# Altium integrated library NXP Semiconductors Sensors.IntLib: 94 symbols (part 1 of 4)
Pins are listed as number, name and electrical type; pins without a type are passive.

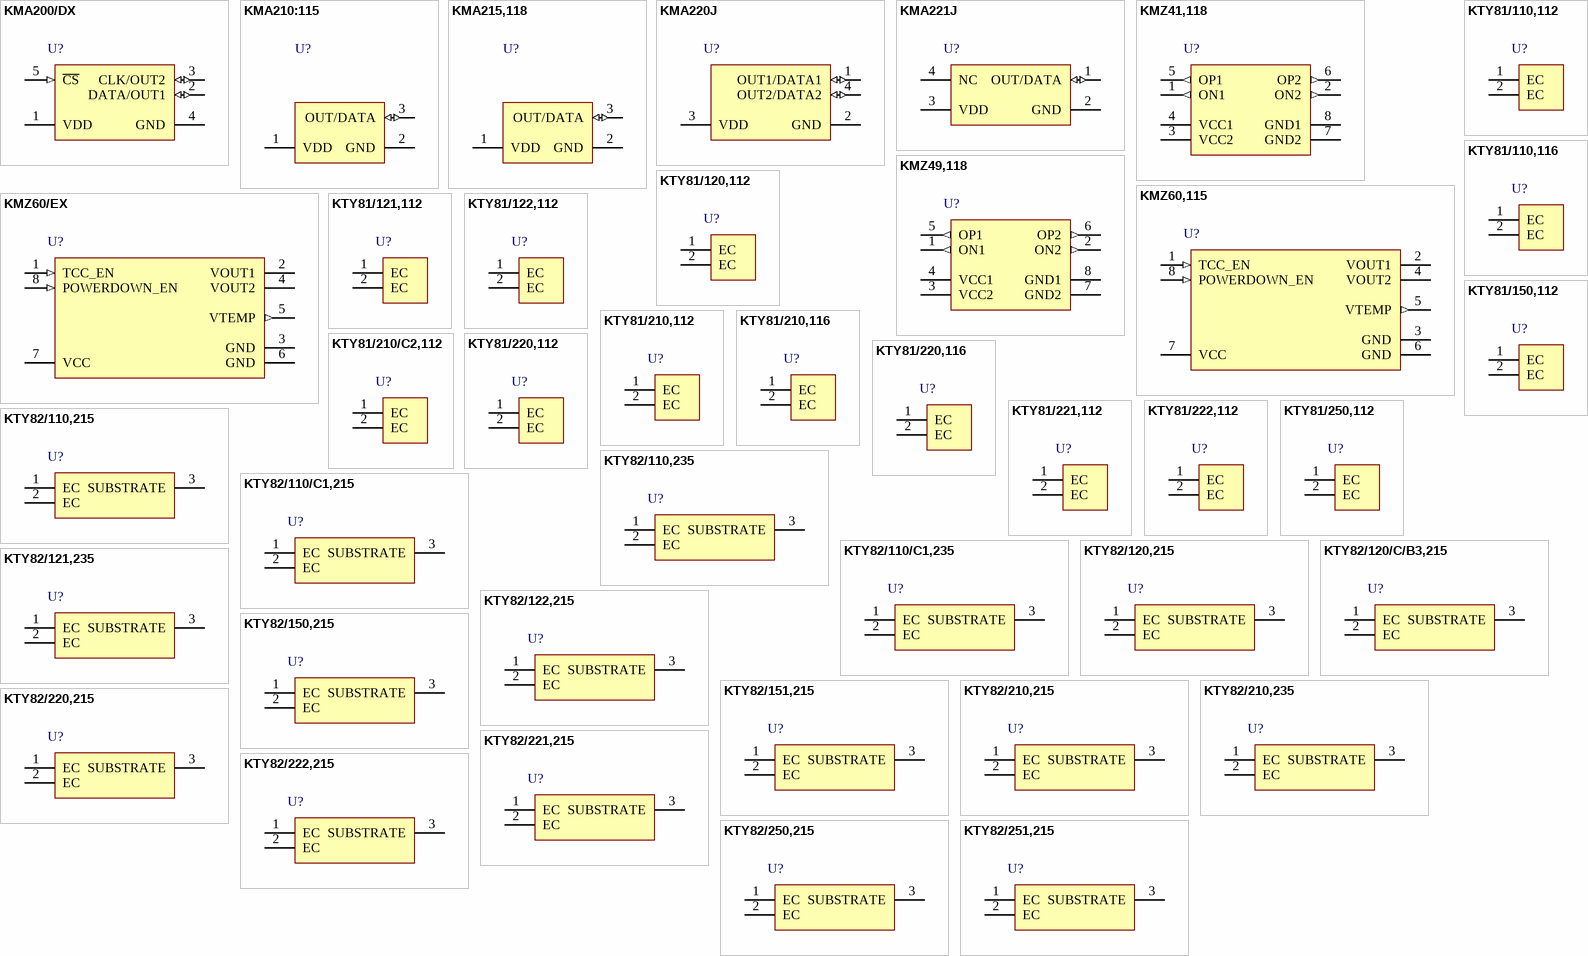
[diagram p0: symbols KMA200/DX to KTY82/251,215]

## KMA200/DX
designator U?
0 to 180 deg Programmable Angle Sensor, 5.5 V Max Supply Voltage, -40 to 160 degC, 5-Pin SOT637, RoHS, Reel; Manufacturer: NXP Semiconductors; PartNumber: KMA200/DX; Angle range (C): 0 to 180; Output Type: 4 analog modes / 2 digital modes; Output voltage [max] (V): 5.5; DatasheetVersion: Rev. 8; PackageVersion: 04-12-10, 12/2004; PackageReference: SOT637; PackageDescription: 5-Pin Plastic Single-Ended Multi-Chip Package, Pitch 1.27 mm; Packing: Reel; Supply voltage [max] (V): 5.5; Mounting Technology: Through Hole; ComponentLink1Description: Manufacturer URL; ComponentLink1URL: http://www.nxp.com/; ComponentLink2Description: Datasheet; ComponentLink2URL: http://www.nxp.com/documents/data_sheet/KMA200.pdf; ComponentLink3Description: Package Specification; ComponentLink3URL: http://www.nxp.com/documents/outline_drawing/sot637_po.pdf
footprint NXP-SOT637_V (SOT, 5-Leads, Body 5.45x1.55mm, Pitch 1.27 mm)
pins: 1 VDD (power) "supply voltage", 2 DATA/OUT1 (io), 3 CLK/OUT2 (io), 4 GND (power) "ground", 5 ~{CS} (in) "chip select (used for data transfer I/O)"

## KMA210:115
designator U?
0 to 180 deg Programmable Angle Sensor, 5.5 V Max Supply Voltage, -40 to 160 degC, 3-Pin SOT1288, RoHS, Reel; Manufacturer: NXP Semiconductors; PartNumber: KMA210:115; Angle range (C): 0 to 180; Output Type: 1 analog linear; Output voltage [max] (V): 5.5; DatasheetVersion: Rev. 2; PackageVersion: 11-06-30, 06/2011; PackageReference: SOT1288; PackageDescription: 3-Pin Plastic Single-Ended Multi-Chip Package, Pitch 2.54 mm; Supplier 1: Digi-Key; Supplier Part Number 1: 568-8399-2-ND; Supplier 2: Digi-Key; Supplier Part Number 2: 568-8399-1-ND; Supplier 3: Digi-Key; Supplier Part Number 3: 568-8399-6-ND; Supplier 4: Newark; Supplier Part Number 4: 74T4097; Supplier 5: Mouser; Supplier Part Number 5: 771-KMA210; Packing: Reel; Supply voltage [max] (V): 5.5; Mounting Technology: Through Hole; ComponentLink1Description: Manufacturer URL; ComponentLink1URL: http://www.nxp.com/; ComponentLink2Description: Datasheet; ComponentLink2URL: http://www.nxp.com/documents/data_sheet/KMA210.pdf; ComponentLink3Description: Package Specification; ComponentLink3URL: http://www.nxp.com/documents/outline_drawing/sot1288_po.pdf
footprint NXP-SOT1288_V (SOT, 3-Leads, Body 5.45x1.65mm, Pitch 2.54mm)
pins: 1 VDD (power) "supply voltage", 2 GND (power) "ground", 3 OUT/DATA (io)

## KMA215,118
designator U?
0 to 180 deg Programmable Angle Sensor with SAE J2716 SENT, 5.25 V Max Supply Voltage, -40 to 160 degC, 3-Pin SOT1288, RoHS, Reel; Manufacturer: NXP Semiconductors; PartNumber: KMA215,118; Angle range (C): 0 to 180; Output Type: 1 digital mode; Output voltage [max] (V): 4.7; Supply voltage [max] (V): 5.25; DatasheetVersion: Rev. 1; PackageVersion: 11-06-30, 06/2011; PackageReference: SOT1288; PackageDescription: 3-Pin Plastic Single-Ended Multi-Chip Package, Pitch 2.54 mm; Packing: Reel; Mounting Technology: Through Hole; ComponentLink1Description: Manufacturer URL; ComponentLink1URL: http://www.nxp.com/; ComponentLink2Description: Datasheet; ComponentLink2URL: http://www.nxp.com/documents/data_sheet/KMA215.pdf; ComponentLink3Description: Package Specification; ComponentLink3URL: http://www.nxp.com/documents/outline_drawing/sot1288_po.pdf
footprint NXP-SOT1288_V (SOT, 3-Leads, Body 5.45x1.65mm, Pitch 2.54mm)
pins: 1 VDD (power) "supply voltage", 2 GND (power) "ground", 3 OUT/DATA (io)

## KMA220J
designator U?
0 to 180 deg Dual Channel Programmable Angle Sensor, 5.5 V Max Supply Voltage, -40 to 160 degC, 4-Pin SOT1188-1, RoHS, Reel; Manufacturer: NXP Semiconductors; PartNumber: KMA220J; Angle range (C): 0 to 180; Output Type: 1 analog linear; Output voltage [max] (V): 5.5; DatasheetVersion: Rev. 2; PackageVersion: 12-05-14, 05/2012; PackageReference: SOT1188-1; PackageDescription: 4-Pin Plastic, Single In-Line Package, Pitch 1.8 mm; Supplier 1: Digi-Key; Supplier Part Number 1: KMA220J-ND; Supplier 2: Newark; Supplier Part Number 2: 55W6628; Supplier 3: Mouser; Supplier Part Number 3: 771-KMA220J; Packing: Reel; Supply voltage [max] (V): 5.5; Mounting Technology: Through Hole; ComponentLink1Description: Manufacturer URL; ComponentLink1URL: http://www.nxp.com/; ComponentLink2Description: Datasheet; ComponentLink2URL: http://www.nxp.com/documents/data_sheet/KMA220.pdf; ComponentLink3Description: Package Specification; ComponentLink3URL: http://www.nxp.com/documents/outline_drawing/sot1188-1_po.pdf
footprint NXP-SOT1188-1_V (SOT, 4-Leads, Body 8.05x2.05mm, Pitch 1.8mm)
pins: 1 OUT1/DATA1 (io) "analog output 1 or data interface 1", 2 GND (power) "ground", 3 VDD (power) "supply voltage", 4 OUT2/DATA2 (io) "analog output 2 or data interface 2"

## KMA221J
designator U?
0 to 180 deg Programmable Angle Sensor, 5.5 V Max Supply Voltage, -40 to 160 degC, 4-Pin SOT1188-1, RoHS, Reel; Manufacturer: NXP Semiconductors; PartNumber: KMA221J; Angle range (C): 0 to 180; Output Type: 1 analog linear; Output voltage [max] (V): 5.5; DatasheetVersion: Rev. 1; PackageVersion: 12-05-14, 05/2012; PackageReference: SOT1188-1; PackageDescription: 4-Pin Plastic, Single In-Line Package, Pitch 1.8 mm; Packing: Reel; Supply voltage [max] (V): 5.5; Mounting Technology: Through Hole; ComponentLink1Description: Manufacturer URL; ComponentLink1URL: http://www.nxp.com/; ComponentLink2Description: Datasheet; ComponentLink2URL: http://www.nxp.com/documents/data_sheet/KMA221.pdf; ComponentLink3Description: Package Specification; ComponentLink3URL: http://www.nxp.com/documents/outline_drawing/sot1188-1_po.pdf
footprint NXP-SOT1188-1_V (SOT, 4-Leads, Body 8.05x2.05mm, Pitch 1.8mm)
pins: 1 OUT/DATA (io) "analog output or data interface", 2 GND (power) "ground", 3 VDD (power) "supply voltage", 4 NC "not connected"

## KMZ41,118
designator U?
Magnetic Field Sensor, 9 V Max Supply Voltage, -40 to 150 degC, 8-Pin SOT96-1, RoHS, Tape & Reel; Manufacturer: NXP Semiconductors; PartNumber: KMZ41,118; Output Type: sine / cosine; Supply voltage [max] (V): 9; Code_IEC: 76000; DatasheetVersion: Rev. 6; PackageVersion: 03-02-18, 02/2003; PackageReference: SOT96-1; PackageDescription: 8-Pin Plastic Small Outline Package, Body 4.9 x 3.9 mm, Pitch 1.27 mm; Supplier 1: Digi-Key; Supplier Part Number 1: KMZ41,118-ND; Supplier 2: Newark; Supplier Part Number 2: 70R5514; Supplier 3: Mouser; Supplier Part Number 3: 771-KMZ41118; Packing: Tape & Reel; Mounting Technology: Surface Mount; Code_JEDEC: MS-012; ComponentLink1Description: Manufacturer URL; ComponentLink1URL: http://www.nxp.com/; ComponentLink2Description: Datasheet; ComponentLink2URL: http://www.nxp.com/documents/data_sheet/KMZ41.pdf; ComponentLink3Description: Package Specification; ComponentLink3URL: http://www.nxp.com/documents/outline_drawing/sot096-1_po.pdf
footprint NXP-SOT96-1_N (SOIC, 8-Leads, Body 5x4mm, Pitch 1.27mm, IPC Medium Density)
footprint NXP-SOT96-1_L (SOIC, 8-Leads, Body 5x4mm, Pitch 1.27mm, IPC High Density)
footprint NXP-SOT96-1_M (SOIC, 8-Leads, Body 5x4mm, Pitch 1.27mm, IPC Low Density)
pins: 1 ON1 (out) "output voltage bridge 1", 2 ON2 (out) "output voltage bridge 2", 3 VCC2 (power) "supply voltage bridge 2", 4 VCC1 (power) "supply voltage bridge 1", 5 OP1 (out) "output voltage bridge 1", 6 OP2 (out) "output voltage bridge 2", 7 GND2 (power), 8 GND1 (power)

## KMZ49,118
designator U?
Magnetic Field Sensor, 9 V Max Supply Voltage, -40 to 150 degC, 8-Pin SOT96-1, RoHS, Tape & Reel; Manufacturer: NXP Semiconductors; PartNumber: KMZ49,118; Output Type: sine / cosine; Supply voltage [max] (V): 9; Code_IEC: 76000; DatasheetVersion: Rev. 1; PackageVersion: 03-02-18, 02/2003; PackageReference: SOT96-1; PackageDescription: 8-Pin Plastic Small Outline Package, Body 4.9 x 3.9 mm, Pitch 1.27 mm; Supplier 1: Digi-Key; Supplier Part Number 1: KMZ49,118-ND; Supplier 2: Newark; Supplier Part Number 2: 78T6033; Supplier 3: Mouser; Supplier Part Number 3: 771-KMZ49118; Packing: Tape & Reel; Mounting Technology: Surface Mount; Code_JEDEC: MS-012; ComponentLink1Description: Manufacturer URL; ComponentLink1URL: http://www.nxp.com/; ComponentLink2Description: Datasheet; ComponentLink2URL: http://www.nxp.com/documents/data_sheet/KMZ49.pdf; ComponentLink3Description: Package Specification; ComponentLink3URL: http://www.nxp.com/documents/outline_drawing/sot096-1_po.pdf
footprint NXP-SOT96-1_N (SOIC, 8-Leads, Body 5x4mm, Pitch 1.27mm, IPC Medium Density)
footprint NXP-SOT96-1_L (SOIC, 8-Leads, Body 5x4mm, Pitch 1.27mm, IPC High Density)
footprint NXP-SOT96-1_M (SOIC, 8-Leads, Body 5x4mm, Pitch 1.27mm, IPC Low Density)
pins: 1 ON1 (out) "output voltage bridge 1", 2 ON2 (out) "output voltage bridge 2", 3 VCC2 (power) "supply voltage bridge 2", 4 VCC1 (power) "supply voltage bridge 1", 5 OP1 (out) "output voltage bridge 1", 6 OP2 (out) "output voltage bridge 2", 7 GND2 (power), 8 GND1 (power)

## KMZ60,115
designator U?
Angle Sensor with Integrated Amplifier, 5.5 V Max Supply Voltage, -40 to 150 degC, 8-Pin SOT96-1, RoHS, Tape & Reel; Manufacturer: NXP Semiconductors; PartNumber: KMZ60,115; Output Type: sine / cosine; Output voltage [max] (V): 5.115; Supply voltage [max] (V): 5.5; Code_IEC: 76000; DatasheetVersion: Rev. 2; PackageVersion: 03-02-18, 02/2003; PackageReference: SOT96-1; PackageDescription: 8-Pin Plastic Small Outline Package, Body 4.9 x 3.9 mm, Pitch 1.27 mm; Supplier 1: Digi-Key; Supplier Part Number 1: 568-8400-2-ND; Supplier 2: Digi-Key; Supplier Part Number 2: 568-8400-1-ND; Supplier 3: Digi-Key; Supplier Part Number 3: 568-8400-6-ND; Supplier 4: Newark; Supplier Part Number 4: 74T4098; Supplier 5: Mouser; Supplier Part Number 5: 771-KMZ60,115; Packing: Tape & Reel; Mounting Technology: Surface Mount; Code_JEDEC: MS-012; ComponentLink1Description: Manufacturer URL; ComponentLink1URL: http://www.nxp.com/; ComponentLink2Description: Datasheet; ComponentLink2URL: http://www.nxp.com/documents/data_sheet/KMZ60.pdf; ComponentLink3Description: Package Specification; ComponentLink3URL: http://www.nxp.com/documents/outline_drawing/sot096-1_po.pdf
footprint NXP-SOT96-1_N (SOIC, 8-Leads, Body 5x4mm, Pitch 1.27mm, IPC Medium Density)
footprint NXP-SOT96-1_L (SOIC, 8-Leads, Body 5x4mm, Pitch 1.27mm, IPC High Density)
footprint NXP-SOT96-1_M (SOIC, 8-Leads, Body 5x4mm, Pitch 1.27mm, IPC Low Density)
pins: 1 TCC_EN (in) "temperature coefficient compensation enable", 2 VOUT1 (hiz) "cosine channel output", 3 GND (power) "ground", 4 VOUT2 (hiz) "sine channel output", 5 VTEMP (out) "temperature reference output voltage", 6 GND (power) "ground", 7 VCC (power) "supply voltage", 8 POWERDOWN_EN (in) "Power-down mode enable"

## KMZ60/EX
designator U?
Angle Sensor with Integrated Amplifier, 5.5 V Max Supply Voltage, -40 to 150 degC, 8-Pin SOT96-1, RoHS, Tape & Reel; Manufacturer: NXP Semiconductors; PartNumber: KMZ60/EX; Output Type: sine / cosine; Output voltage [max] (V): 5.115; Supply voltage [max] (V): 5.5; Code_IEC: 76000; DatasheetVersion: Rev. 2; PackageVersion: 03-02-18, 02/2003; PackageReference: SOT96-1; PackageDescription: 8-Pin Plastic Small Outline Package, Body 4.9 x 3.9 mm, Pitch 1.27 mm; Packing: Tape & Reel; Mounting Technology: Surface Mount; Code_JEDEC: MS-012; ComponentLink1Description: Manufacturer URL; ComponentLink1URL: http://www.nxp.com/; ComponentLink2Description: Datasheet; ComponentLink2URL: http://www.nxp.com/documents/data_sheet/KMZ60.pdf; ComponentLink3Description: Package Specification; ComponentLink3URL: http://www.nxp.com/documents/outline_drawing/sot096-1_po.pdf
footprint NXP-SOT96-1_N (SOIC, 8-Leads, Body 5x4mm, Pitch 1.27mm, IPC Medium Density)
footprint NXP-SOT96-1_L (SOIC, 8-Leads, Body 5x4mm, Pitch 1.27mm, IPC High Density)
footprint NXP-SOT96-1_M (SOIC, 8-Leads, Body 5x4mm, Pitch 1.27mm, IPC Low Density)
pins: 1 TCC_EN (in) "temperature coefficient compensation enable", 2 VOUT1 (hiz) "cosine channel output", 3 GND (power) "ground", 4 VOUT2 (hiz) "sine channel output", 5 VTEMP (out) "temperature reference output voltage", 6 GND (power) "ground", 7 VCC (power) "supply voltage", 8 POWERDOWN_EN (in) "Power-down mode enable"

## KTY81/110,112
designator U?
Silicon Temperature Sensor, 1000 Ohm R25, 1696 Ohm R100, -55 to 150 degC, 2-Pin SOD70, RoHS, Bulk; Manufacturer: NXP Semiconductors; PartNumber: KTY81/110,112; R100 (Ohm): 1696; R25 (Ohm): 1000; DatasheetVersion: Rev. 05; PackageVersion: 06-09-15, 09/2006; PackageReference: SOD70; PackageDescription: 2-Pin Plastic Near Cylindrical Single-Ended Package, Pitch 2.54 mm; Supplier 1: Digi-Key; Supplier Part Number 1: 568-1003-ND; Supplier 2: Newark; Supplier Part Number 2: 70R5516; Supplier 3: Mouser; Supplier Part Number 3: N/A; Packing: Bulk; Mounting Technology: Through Hole; ComponentLink1Description: Manufacturer URL; ComponentLink1URL: http://www.nxp.com/; ComponentLink2Description: Datasheet; ComponentLink2URL: http://www.nxp.com/documents/data_sheet/KTY81_SER.pdf; ComponentLink3Description: Package Specification; ComponentLink3URL: http://www.nxp.com/documents/outline_drawing/sod070_po.pdf
footprint NXP-SOD70_V (TO, 2-Leads, Body Dia. 4.8mm, Pitch 2.54mm)
pins: 1 EC "electrical contact", 2 EC "electrical contact"

## KTY81/110,116
designator U?
Silicon Temperature Sensor, 1000 Ohm R25, 1696 Ohm R100, -55 to 150 degC, 2-Pin SOD70, RoHS, Reel; Manufacturer: NXP Semiconductors; PartNumber: KTY81/110,116; R100 (Ohm): 1696; R25 (Ohm): 1000; DatasheetVersion: Rev. 05; PackageVersion: 06-09-15, 09/2006; PackageReference: SOD70; PackageDescription: 2-Pin Plastic Near Cylindrical Single-Ended Package, Pitch 2.54 mm; Supplier 1: Digi-Key; Supplier Part Number 1: KTY81/110,116-ND; Supplier 2: Mouser; Supplier Part Number 2: 771-KTY81/110,116; Packing: Reel; Mounting Technology: Through Hole; ComponentLink1Description: Manufacturer URL; ComponentLink1URL: http://www.nxp.com/; ComponentLink2Description: Datasheet; ComponentLink2URL: http://www.nxp.com/documents/data_sheet/KTY81_SER.pdf; ComponentLink3Description: Package Specification; ComponentLink3URL: http://www.nxp.com/documents/outline_drawing/sod070_po.pdf
footprint NXP-SOD70_V (TO, 2-Leads, Body Dia. 4.8mm, Pitch 2.54mm)
pins: 1 EC "electrical contact", 2 EC "electrical contact"

## KTY81/120,112
designator U?
Silicon Temperature Sensor, 1000 Ohm R25, 1696 Ohm R100, -55 to 150 degC, 2-Pin SOD70, RoHS, Bulk; Manufacturer: NXP Semiconductors; PartNumber: KTY81/120,112; R100 (Ohm): 1696; R25 (Ohm): 1000; DatasheetVersion: Rev. 05; PackageVersion: 06-09-15, 09/2006; PackageReference: SOD70; PackageDescription: 2-Pin Plastic Near Cylindrical Single-Ended Package, Pitch 2.54 mm; Supplier 1: Digi-Key; Supplier Part Number 1: KTY81/120,112-ND; Supplier 2: Mouser; Supplier Part Number 2: 771-KTY81120112; Packing: Bulk; Mounting Technology: Through Hole; ComponentLink1Description: Manufacturer URL; ComponentLink1URL: http://www.nxp.com/; ComponentLink2Description: Datasheet; ComponentLink2URL: http://www.nxp.com/documents/data_sheet/KTY81_SER.pdf; ComponentLink3Description: Package Specification; ComponentLink3URL: http://www.nxp.com/documents/outline_drawing/sod070_po.pdf
footprint NXP-SOD70_V (TO, 2-Leads, Body Dia. 4.8mm, Pitch 2.54mm)
pins: 1 EC "electrical contact", 2 EC "electrical contact"

## KTY81/121,112
designator U?
Silicon Temperature Sensor, 990 Ohm R25, 1679 Ohm R100, -55 to 150 degC, 2-Pin SOD70, RoHS, Bulk; Manufacturer: NXP Semiconductors; PartNumber: KTY81/121,112; R100 (Ohm): 1679; R25 (Ohm): 990; DatasheetVersion: Rev. 05; PackageVersion: 06-09-15, 09/2006; PackageReference: SOD70; PackageDescription: 2-Pin Plastic Near Cylindrical Single-Ended Package, Pitch 2.54 mm; Supplier 1: Digi-Key; Supplier Part Number 1: 568-3249-ND; Supplier 2: Newark; Supplier Part Number 2: 70R5519; Supplier 3: Mouser; Supplier Part Number 3: 771-KTY81121112; Packing: Bulk; Mounting Technology: Through Hole; ComponentLink1Description: Manufacturer URL; ComponentLink1URL: http://www.nxp.com/; ComponentLink2Description: Datasheet; ComponentLink2URL: http://www.nxp.com/documents/data_sheet/KTY81_SER.pdf; ComponentLink3Description: Package Specification; ComponentLink3URL: http://www.nxp.com/documents/outline_drawing/sod070_po.pdf
footprint NXP-SOD70_V (TO, 2-Leads, Body Dia. 4.8mm, Pitch 2.54mm)
pins: 1 EC "electrical contact", 2 EC "electrical contact"

## KTY81/122,112
designator U?
Silicon Temperature Sensor, 1010 Ohm R25, 1713 Ohm R100, -55 to 150 degC, 2-Pin SOD70, RoHS, Bulk; Manufacturer: NXP Semiconductors; PartNumber: KTY81/122,112; R100 (Ohm): 1713; R25 (Ohm): 1010; DatasheetVersion: Rev. 05; PackageVersion: 06-09-15, 09/2006; PackageReference: SOD70; PackageDescription: 2-Pin Plastic Near Cylindrical Single-Ended Package, Pitch 2.54 mm; Supplier 1: Digi-Key; Supplier Part Number 1: KTY81/122,112-ND; Supplier 2: Newark; Supplier Part Number 2: 70R5520; Supplier 3: Mouser; Supplier Part Number 3: 771-KTY81122112; Packing: Bulk; Mounting Technology: Through Hole; ComponentLink1Description: Manufacturer URL; ComponentLink1URL: http://www.nxp.com/; ComponentLink2Description: Datasheet; ComponentLink2URL: http://www.nxp.com/documents/data_sheet/KTY81_SER.pdf; ComponentLink3Description: Package Specification; ComponentLink3URL: http://www.nxp.com/documents/outline_drawing/sod070_po.pdf
footprint NXP-SOD70_V (TO, 2-Leads, Body Dia. 4.8mm, Pitch 2.54mm)
pins: 1 EC "electrical contact", 2 EC "electrical contact"

## KTY81/150,112
designator U?
Silicon Temperature Sensor, 1000 Ohm R25, 1696 Ohm R100, -55 to 150 degC, 2-Pin SOD70, RoHS, Bulk; Manufacturer: NXP Semiconductors; PartNumber: KTY81/150,112; R100 (Ohm): 1696; R25 (Ohm): 1000; DatasheetVersion: Rev. 05; PackageVersion: 06-09-15, 09/2006; PackageReference: SOD70; PackageDescription: 2-Pin Plastic Near Cylindrical Single-Ended Package, Pitch 2.54 mm; Supplier 1: Digi-Key; Supplier Part Number 1: KTY81/150,112-ND; Supplier 2: Mouser; Supplier Part Number 2: 771-KTY81150112; Packing: Bulk; Mounting Technology: Through Hole; ComponentLink1Description: Manufacturer URL; ComponentLink1URL: http://www.nxp.com/; ComponentLink2Description: Datasheet; ComponentLink2URL: http://www.nxp.com/documents/data_sheet/KTY81_SER.pdf; ComponentLink3Description: Package Specification; ComponentLink3URL: http://www.nxp.com/documents/outline_drawing/sod070_po.pdf
footprint NXP-SOD70_V (TO, 2-Leads, Body Dia. 4.8mm, Pitch 2.54mm)
pins: 1 EC "electrical contact", 2 EC "electrical contact"

## KTY81/210,112
designator U?
Silicon Temperature Sensor, 2000 Ohm R25, 3392 Ohm R100, -55 to 150 degC, 2-Pin SOD70, RoHS, Bulk; Manufacturer: NXP Semiconductors; PartNumber: KTY81/210,112; R100 (Ohm): 3392; R25 (Ohm): 2000; DatasheetVersion: Rev. 05; PackageVersion: 06-09-15, 09/2006; PackageReference: SOD70; PackageDescription: 2-Pin Plastic Near Cylindrical Single-Ended Package, Pitch 2.54 mm; Supplier 1: Digi-Key; Supplier Part Number 1: 568-3250-ND; Supplier 2: Newark; Supplier Part Number 2: 70R5522; Supplier 3: Mouser; Supplier Part Number 3: N/A; Packing: Bulk; Mounting Technology: Through Hole; ComponentLink1Description: Manufacturer URL; ComponentLink1URL: http://www.nxp.com/; ComponentLink2Description: Datasheet; ComponentLink2URL: http://www.nxp.com/documents/data_sheet/KTY81_SER.pdf; ComponentLink3Description: Package Specification; ComponentLink3URL: http://www.nxp.com/documents/outline_drawing/sod070_po.pdf
footprint NXP-SOD70_V (TO, 2-Leads, Body Dia. 4.8mm, Pitch 2.54mm)
pins: 1 EC "electrical contact", 2 EC "electrical contact"

## KTY81/210,116
designator U?
Silicon Temperature Sensor, 2000 Ohm R25, 3392 Ohm R100, -55 to 150 degC, 2-Pin SOD70, RoHS, Reel; Manufacturer: NXP Semiconductors; PartNumber: KTY81/210,116; R100 (Ohm): 3392; R25 (Ohm): 2000; DatasheetVersion: Rev. 05; PackageVersion: 06-09-15, 09/2006; PackageReference: SOD70; PackageDescription: 2-Pin Plastic Near Cylindrical Single-Ended Package, Pitch 2.54 mm; Supplier 1: Digi-Key; Supplier Part Number 1: KTY81/210,116-ND; Supplier 2: Mouser; Supplier Part Number 2: N/A; Packing: Reel; Mounting Technology: Through Hole; ComponentLink1Description: Manufacturer URL; ComponentLink1URL: http://www.nxp.com/; ComponentLink2Description: Datasheet; ComponentLink2URL: http://www.nxp.com/documents/data_sheet/KTY81_SER.pdf; ComponentLink3Description: Package Specification; ComponentLink3URL: http://www.nxp.com/documents/outline_drawing/sod070_po.pdf
footprint NXP-SOD70_V (TO, 2-Leads, Body Dia. 4.8mm, Pitch 2.54mm)
pins: 1 EC "electrical contact", 2 EC "electrical contact"

## KTY81/210/C2,112
designator U?
Silicon Temperature Sensor, 2000 Ohm R25, 3392 Ohm R100, -55 to 150 degC, 2-Pin SOD70, RoHS, Bulk; Manufacturer: NXP Semiconductors; PartNumber: KTY81/210/C2,112; R100 (Ohm): 3392; R25 (Ohm): 2000; DatasheetVersion: Rev. 05; PackageVersion: 06-09-15, 09/2006; PackageReference: SOD70; PackageDescription: 2-Pin Plastic Near Cylindrical Single-Ended Package, Pitch 2.54 mm; Supplier 1: Mouser; Supplier Part Number 1: N/A; Packing: Bulk; Mounting Technology: Through Hole; ComponentLink1Description: Manufacturer URL; ComponentLink1URL: http://www.nxp.com/; ComponentLink2Description: Datasheet; ComponentLink2URL: http://www.nxp.com/documents/data_sheet/KTY81_SER.pdf; ComponentLink3Description: Package Specification; ComponentLink3URL: http://www.nxp.com/documents/outline_drawing/sod070_po.pdf
footprint NXP-SOD70_V (TO, 2-Leads, Body Dia. 4.8mm, Pitch 2.54mm)
pins: 1 EC "electrical contact", 2 EC "electrical contact"

## KTY81/220,112
designator U?
Silicon Temperature Sensor, 2000 Ohm R25, 3392 Ohm R100, -55 to 150 degC, 2-Pin SOD70, RoHS, Bulk; Manufacturer: NXP Semiconductors; PartNumber: KTY81/220,112; R100 (Ohm): 3392; R25 (Ohm): 2000; DatasheetVersion: Rev. 05; PackageVersion: 06-09-15, 09/2006; PackageReference: SOD70; PackageDescription: 2-Pin Plastic Near Cylindrical Single-Ended Package, Pitch 2.54 mm; Supplier 1: Digi-Key; Supplier Part Number 1: 568-3251-ND; Supplier 2: Newark; Supplier Part Number 2: 70R5524; Supplier 3: Mouser; Supplier Part Number 3: 771-KTY81220112; Packing: Bulk; Mounting Technology: Through Hole; ComponentLink1Description: Manufacturer URL; ComponentLink1URL: http://www.nxp.com/; ComponentLink2Description: Datasheet; ComponentLink2URL: http://www.nxp.com/documents/data_sheet/KTY81_SER.pdf; ComponentLink3Description: Package Specification; ComponentLink3URL: http://www.nxp.com/documents/outline_drawing/sod070_po.pdf
footprint NXP-SOD70_V (TO, 2-Leads, Body Dia. 4.8mm, Pitch 2.54mm)
pins: 1 EC "electrical contact", 2 EC "electrical contact"

## KTY81/220,116
designator U?
Silicon Temperature Sensor, 2000 Ohm R25, 3392 Ohm R100, -55 to 150 degC, 2-Pin SOD70, RoHS, Reel; Manufacturer: NXP Semiconductors; PartNumber: KTY81/220,116; R100 (Ohm): 3392; R25 (Ohm): 2000; DatasheetVersion: Rev. 05; PackageVersion: 06-09-15, 09/2006; PackageReference: SOD70; PackageDescription: 2-Pin Plastic Near Cylindrical Single-Ended Package, Pitch 2.54 mm; Supplier 1: Digi-Key; Supplier Part Number 1: KTY81/220,116-ND; Supplier 2: Newark; Supplier Part Number 2: 70R5525; Supplier 3: Mouser; Supplier Part Number 3: 771-KTY81/220,116; Packing: Reel; Mounting Technology: Through Hole; ComponentLink1Description: Manufacturer URL; ComponentLink1URL: http://www.nxp.com/; ComponentLink2Description: Datasheet; ComponentLink2URL: http://www.nxp.com/documents/data_sheet/KTY81_SER.pdf; ComponentLink3Description: Package Specification; ComponentLink3URL: http://www.nxp.com/documents/outline_drawing/sod070_po.pdf
footprint NXP-SOD70_V (TO, 2-Leads, Body Dia. 4.8mm, Pitch 2.54mm)
pins: 1 EC "electrical contact", 2 EC "electrical contact"

## KTY81/221,112
designator U?
Silicon Temperature Sensor, 1980 Ohm R25, 3358 Ohm R100, -55 to 150 degC, 2-Pin SOD70, RoHS, Bulk; Manufacturer: NXP Semiconductors; PartNumber: KTY81/221,112; R100 (Ohm): 3358; R25 (Ohm): 1980; DatasheetVersion: Rev. 05; PackageVersion: 06-09-15, 09/2006; PackageReference: SOD70; PackageDescription: 2-Pin Plastic Near Cylindrical Single-Ended Package, Pitch 2.54 mm; Supplier 1: Digi-Key; Supplier Part Number 1: KTY81/221,112-ND; Supplier 2: Mouser; Supplier Part Number 2: 771-KTY81221112; Packing: Bulk; Mounting Technology: Through Hole; ComponentLink1Description: Manufacturer URL; ComponentLink1URL: http://www.nxp.com/; ComponentLink2Description: Datasheet; ComponentLink2URL: http://www.nxp.com/documents/data_sheet/KTY81_SER.pdf; ComponentLink3Description: Package Specification; ComponentLink3URL: http://www.nxp.com/documents/outline_drawing/sod070_po.pdf
footprint NXP-SOD70_V (TO, 2-Leads, Body Dia. 4.8mm, Pitch 2.54mm)
pins: 1 EC "electrical contact", 2 EC "electrical contact"

## KTY81/222,112
designator U?
Silicon Temperature Sensor, 2020 Ohm R25, 3426 Ohm R100, -55 to 150 degC, 2-Pin SOD70, RoHS, Bulk; Manufacturer: NXP Semiconductors; PartNumber: KTY81/222,112; R100 (Ohm): 3426; R25 (Ohm): 2020; DatasheetVersion: Rev. 05; PackageVersion: 06-09-15, 09/2006; PackageReference: SOD70; PackageDescription: 2-Pin Plastic Near Cylindrical Single-Ended Package, Pitch 2.54 mm; Supplier 1: Digi-Key; Supplier Part Number 1: 568-3252-ND; Supplier 2: Mouser; Supplier Part Number 2: 771-KTY81222112; Packing: Bulk; Mounting Technology: Through Hole; ComponentLink1Description: Manufacturer URL; ComponentLink1URL: http://www.nxp.com/; ComponentLink2Description: Datasheet; ComponentLink2URL: http://www.nxp.com/documents/data_sheet/KTY81_SER.pdf; ComponentLink3Description: Package Specification; ComponentLink3URL: http://www.nxp.com/documents/outline_drawing/sod070_po.pdf
footprint NXP-SOD70_V (TO, 2-Leads, Body Dia. 4.8mm, Pitch 2.54mm)
pins: 1 EC "electrical contact", 2 EC "electrical contact"

## KTY81/250,112
designator U?
Silicon Temperature Sensor, 2000 Ohm R25, 3392 Ohm R100, -55 to 150 degC, 2-Pin SOD70, RoHS, Bulk; Manufacturer: NXP Semiconductors; PartNumber: KTY81/250,112; R100 (Ohm): 3392; R25 (Ohm): 2000; DatasheetVersion: Rev. 05; PackageVersion: 06-09-15, 09/2006; PackageReference: SOD70; PackageDescription: 2-Pin Plastic Near Cylindrical Single-Ended Package, Pitch 2.54 mm; Supplier 1: Digi-Key; Supplier Part Number 1: KTY81/250,112-ND; Supplier 2: Mouser; Supplier Part Number 2: 771-KTY81250112; Packing: Bulk; Mounting Technology: Through Hole; ComponentLink1Description: Manufacturer URL; ComponentLink1URL: http://www.nxp.com/; ComponentLink2Description: Datasheet; ComponentLink2URL: http://www.nxp.com/documents/data_sheet/KTY81_SER.pdf; ComponentLink3Description: Package Specification; ComponentLink3URL: http://www.nxp.com/documents/outline_drawing/sod070_po.pdf
footprint NXP-SOD70_V (TO, 2-Leads, Body Dia. 4.8mm, Pitch 2.54mm)
pins: 1 EC "electrical contact", 2 EC "electrical contact"

## KTY82/110,215
designator U?
Silicon Temperature Sensor, 1000 Ohm R25, 1696 Ohm R100, -55 to 150 degC, 3-Pin SOT23, RoHS, Tape & Reel; Manufacturer: NXP Semiconductors; PartNumber: KTY82/110,215; R100 (Ohm): 1696; R25 (Ohm): 1000; DatasheetVersion: Rev. 04; PackageVersion: 06-03-16, 03/2006; PackageReference: SOT23; PackageDescription: 3-Pin Plastic Surface Mounted Package, Body 2.9 x 1.3 mm, Pitch 0.95 mm; Supplier 1: Digi-Key; Supplier Part Number 1: 568-11219-2-ND; Supplier 2: Digi-Key; Supplier Part Number 2: 568-11219-1-ND; Supplier 3: Digi-Key; Supplier Part Number 3: 568-11219-6-ND; Supplier 4: Newark; Supplier Part Number 4: 70R5529; Supplier 5: Mouser; Supplier Part Number 5: 771-KTY82/110T/R; Packing: Tape & Reel; Mounting Technology: Surface Mount; Code_JEDEC: TO-236AB; ComponentLink1Description: Manufacturer URL; ComponentLink1URL: http://www.nxp.com/; ComponentLink2Description: Datasheet; ComponentLink2URL: http://www.nxp.com/documents/data_sheet/KTY82_SER.pdf; ComponentLink3Description: Package Specification; ComponentLink3URL: http://www.nxp.com/documents/outline_drawing/sot023_po.pdf
footprint NXP-SOT23_N (SOT23, 3-Leads, Body 3x1.4mm, Pitch 0.95mm, IPC Medium Density)
footprint NXP-SOT23_L (SOT23, 3-Leads, Body 3x1.4mm, Pitch 0.95mm, IPC High Density)
footprint NXP-SOT23_M (SOT23, 3-Leads, Body 3x1.4mm, Pitch 0.95mm, IPC Low Density)
pins: 1 EC "electrical contact", 2 EC "electrical contact", 3 SUBSTRATE "substrate (must remain potential free)"

## KTY82/110,235
designator U?
Silicon Temperature Sensor, 1000 Ohm R25, 1696 Ohm R100, -55 to 150 degC, 3-Pin SOT23, RoHS, Tape & Reel; Manufacturer: NXP Semiconductors; PartNumber: KTY82/110,235; R100 (Ohm): 1696; R25 (Ohm): 1000; DatasheetVersion: Rev. 04; PackageVersion: 06-03-16, 03/2006; PackageReference: SOT23; PackageDescription: 3-Pin Plastic Surface Mounted Package, Body 2.9 x 1.3 mm, Pitch 0.95 mm; Supplier 1: Digi-Key; Supplier Part Number 1: KTY82/110,235-ND; Supplier 2: Mouser; Supplier Part Number 2: 771-KTY82110235; Packing: Tape & Reel; Mounting Technology: Surface Mount; Code_JEDEC: TO-236AB; ComponentLink1Description: Manufacturer URL; ComponentLink1URL: http://www.nxp.com/; ComponentLink2Description: Datasheet; ComponentLink2URL: http://www.nxp.com/documents/data_sheet/KTY82_SER.pdf; ComponentLink3Description: Package Specification; ComponentLink3URL: http://www.nxp.com/documents/outline_drawing/sot023_po.pdf
footprint NXP-SOT23_N (SOT23, 3-Leads, Body 3x1.4mm, Pitch 0.95mm, IPC Medium Density)
footprint NXP-SOT23_L (SOT23, 3-Leads, Body 3x1.4mm, Pitch 0.95mm, IPC High Density)
footprint NXP-SOT23_M (SOT23, 3-Leads, Body 3x1.4mm, Pitch 0.95mm, IPC Low Density)
pins: 1 EC "electrical contact", 2 EC "electrical contact", 3 SUBSTRATE "substrate (must remain potential free)"

## KTY82/110/C1,215
designator U?
Silicon Temperature Sensor, 1000 Ohm R25, 1696 Ohm R100, -55 to 150 degC, 3-Pin SOT23, RoHS, Tape & Reel; Manufacturer: NXP Semiconductors; PartNumber: KTY82/110/C1,215; R100 (Ohm): 1696; R25 (Ohm): 1000; DatasheetVersion: Rev. 04; PackageVersion: 06-03-16, 03/2006; PackageReference: SOT23; PackageDescription: 3-Pin Plastic Surface Mounted Package, Body 2.9 x 1.3 mm, Pitch 0.95 mm; Supplier 1: Mouser; Supplier Part Number 1: N/A; Packing: Tape & Reel; Mounting Technology: Surface Mount; Code_JEDEC: TO-236AB; ComponentLink1Description: Manufacturer URL; ComponentLink1URL: http://www.nxp.com/; ComponentLink2Description: Datasheet; ComponentLink2URL: http://www.nxp.com/documents/data_sheet/KTY82_SER.pdf; ComponentLink3Description: Package Specification; ComponentLink3URL: http://www.nxp.com/documents/outline_drawing/sot023_po.pdf
footprint NXP-SOT23_N (SOT23, 3-Leads, Body 3x1.4mm, Pitch 0.95mm, IPC Medium Density)
footprint NXP-SOT23_L (SOT23, 3-Leads, Body 3x1.4mm, Pitch 0.95mm, IPC High Density)
footprint NXP-SOT23_M (SOT23, 3-Leads, Body 3x1.4mm, Pitch 0.95mm, IPC Low Density)
pins: 1 EC "electrical contact", 2 EC "electrical contact", 3 SUBSTRATE "substrate (must remain potential free)"

## KTY82/110/C1,235
designator U?
Silicon Temperature Sensor, 1000 Ohm R25, 1696 Ohm R100, -55 to 150 degC, 3-Pin SOT23, RoHS, Tape & Reel; Manufacturer: NXP Semiconductors; PartNumber: KTY82/110/C1,235; R100 (Ohm): 1696; R25 (Ohm): 1000; DatasheetVersion: Rev. 04; PackageVersion: 06-03-16, 03/2006; PackageReference: SOT23; PackageDescription: 3-Pin Plastic Surface Mounted Package, Body 2.9 x 1.3 mm, Pitch 0.95 mm; Supplier 1: Mouser; Supplier Part Number 1: N/A; Packing: Tape & Reel; Mounting Technology: Surface Mount; Code_JEDEC: TO-236AB; ComponentLink1Description: Manufacturer URL; ComponentLink1URL: http://www.nxp.com/; ComponentLink2Description: Datasheet; ComponentLink2URL: http://www.nxp.com/documents/data_sheet/KTY82_SER.pdf; ComponentLink3Description: Package Specification; ComponentLink3URL: http://www.nxp.com/documents/outline_drawing/sot023_po.pdf
footprint NXP-SOT23_N (SOT23, 3-Leads, Body 3x1.4mm, Pitch 0.95mm, IPC Medium Density)
footprint NXP-SOT23_L (SOT23, 3-Leads, Body 3x1.4mm, Pitch 0.95mm, IPC High Density)
footprint NXP-SOT23_M (SOT23, 3-Leads, Body 3x1.4mm, Pitch 0.95mm, IPC Low Density)
pins: 1 EC "electrical contact", 2 EC "electrical contact", 3 SUBSTRATE "substrate (must remain potential free)"

## KTY82/120,215
designator U?
Silicon Temperature Sensor, 1000 Ohm R25, 1696 Ohm R100, -55 to 150 degC, 3-Pin SOT23, RoHS, Tape & Reel; Manufacturer: NXP Semiconductors; PartNumber: KTY82/120,215; R100 (Ohm): 1696; R25 (Ohm): 1000; DatasheetVersion: Rev. 04; PackageVersion: 06-03-16, 03/2006; PackageReference: SOT23; PackageDescription: 3-Pin Plastic Surface Mounted Package, Body 2.9 x 1.3 mm, Pitch 0.95 mm; Supplier 1: Digi-Key; Supplier Part Number 1: KTY82/120,215-ND; Supplier 2: Mouser; Supplier Part Number 2: 771-KTY82120215; Packing: Tape & Reel; Mounting Technology: Surface Mount; Code_JEDEC: TO-236AB; ComponentLink1Description: Manufacturer URL; ComponentLink1URL: http://www.nxp.com/; ComponentLink2Description: Datasheet; ComponentLink2URL: http://www.nxp.com/documents/data_sheet/KTY82_SER.pdf; ComponentLink3Description: Package Specification; ComponentLink3URL: http://www.nxp.com/documents/outline_drawing/sot023_po.pdf
footprint NXP-SOT23_N (SOT23, 3-Leads, Body 3x1.4mm, Pitch 0.95mm, IPC Medium Density)
footprint NXP-SOT23_L (SOT23, 3-Leads, Body 3x1.4mm, Pitch 0.95mm, IPC High Density)
footprint NXP-SOT23_M (SOT23, 3-Leads, Body 3x1.4mm, Pitch 0.95mm, IPC Low Density)
pins: 1 EC "electrical contact", 2 EC "electrical contact", 3 SUBSTRATE "substrate (must remain potential free)"

## KTY82/120/C/B3,215
designator U?
Silicon Temperature Sensor, 1000 Ohm R25, 1696 Ohm R100, -55 to 150 degC, 3-Pin SOT23, RoHS, Tape & Reel; Manufacturer: NXP Semiconductors; PartNumber: KTY82/120/C/B3,215; R100 (Ohm): 1696; R25 (Ohm): 1000; DatasheetVersion: Rev. 04; PackageVersion: 06-03-16, 03/2006; PackageReference: SOT23; PackageDescription: 3-Pin Plastic Surface Mounted Package, Body 2.9 x 1.3 mm, Pitch 0.95 mm; Supplier 1: Mouser; Supplier Part Number 1: N/A; Packing: Tape & Reel; Mounting Technology: Surface Mount; Code_JEDEC: TO-236AB; ComponentLink1Description: Manufacturer URL; ComponentLink1URL: http://www.nxp.com/; ComponentLink2Description: Datasheet; ComponentLink2URL: http://www.nxp.com/documents/data_sheet/KTY82_SER.pdf; ComponentLink3Description: Package Specification; ComponentLink3URL: http://www.nxp.com/documents/outline_drawing/sot023_po.pdf
footprint NXP-SOT23_N (SOT23, 3-Leads, Body 3x1.4mm, Pitch 0.95mm, IPC Medium Density)
footprint NXP-SOT23_L (SOT23, 3-Leads, Body 3x1.4mm, Pitch 0.95mm, IPC High Density)
footprint NXP-SOT23_M (SOT23, 3-Leads, Body 3x1.4mm, Pitch 0.95mm, IPC Low Density)
pins: 1 EC "electrical contact", 2 EC "electrical contact", 3 SUBSTRATE "substrate (must remain potential free)"

## KTY82/121,235
designator U?
Silicon Temperature Sensor, 990 Ohm R25, 1679 Ohm R100, -55 to 150 degC, 3-Pin SOT23, RoHS, Tape & Reel; Manufacturer: NXP Semiconductors; PartNumber: KTY82/121,235; R100 (Ohm): 1679; R25 (Ohm): 990; DatasheetVersion: Rev. 04; PackageVersion: 06-03-16, 03/2006; PackageReference: SOT23; PackageDescription: 3-Pin Plastic Surface Mounted Package, Body 2.9 x 1.3 mm, Pitch 0.95 mm; Supplier 1: Digi-Key; Supplier Part Number 1: KTY82/121,235-ND; Supplier 2: Mouser; Supplier Part Number 2: 771-KTY82121235; Packing: Tape & Reel; Mounting Technology: Surface Mount; Code_JEDEC: TO-236AB; ComponentLink1Description: Manufacturer URL; ComponentLink1URL: http://www.nxp.com/; ComponentLink2Description: Datasheet; ComponentLink2URL: http://www.nxp.com/documents/data_sheet/KTY82_SER.pdf; ComponentLink3Description: Package Specification; ComponentLink3URL: http://www.nxp.com/documents/outline_drawing/sot023_po.pdf
footprint NXP-SOT23_N (SOT23, 3-Leads, Body 3x1.4mm, Pitch 0.95mm, IPC Medium Density)
footprint NXP-SOT23_L (SOT23, 3-Leads, Body 3x1.4mm, Pitch 0.95mm, IPC High Density)
footprint NXP-SOT23_M (SOT23, 3-Leads, Body 3x1.4mm, Pitch 0.95mm, IPC Low Density)
pins: 1 EC "electrical contact", 2 EC "electrical contact", 3 SUBSTRATE "substrate (must remain potential free)"

## KTY82/122,215
designator U?
Silicon Temperature Sensor, 1010 Ohm R25, 1713 Ohm R100, -55 to 150 degC, 3-Pin SOT23, RoHS, Tape & Reel; Manufacturer: NXP Semiconductors; PartNumber: KTY82/122,215; R100 (Ohm): 1713; R25 (Ohm): 1010; DatasheetVersion: Rev. 04; PackageVersion: 06-03-16, 03/2006; PackageReference: SOT23; PackageDescription: 3-Pin Plastic Surface Mounted Package, Body 2.9 x 1.3 mm, Pitch 0.95 mm; Supplier 1: Digi-Key; Supplier Part Number 1: KTY82/122,215-ND; Supplier 2: Mouser; Supplier Part Number 2: 771-KTY82122215; Packing: Tape & Reel; Mounting Technology: Surface Mount; Code_JEDEC: TO-236AB; ComponentLink1Description: Manufacturer URL; ComponentLink1URL: http://www.nxp.com/; ComponentLink2Description: Datasheet; ComponentLink2URL: http://www.nxp.com/documents/data_sheet/KTY82_SER.pdf; ComponentLink3Description: Package Specification; ComponentLink3URL: http://www.nxp.com/documents/outline_drawing/sot023_po.pdf
footprint NXP-SOT23_N (SOT23, 3-Leads, Body 3x1.4mm, Pitch 0.95mm, IPC Medium Density)
footprint NXP-SOT23_L (SOT23, 3-Leads, Body 3x1.4mm, Pitch 0.95mm, IPC High Density)
footprint NXP-SOT23_M (SOT23, 3-Leads, Body 3x1.4mm, Pitch 0.95mm, IPC Low Density)
pins: 1 EC "electrical contact", 2 EC "electrical contact", 3 SUBSTRATE "substrate (must remain potential free)"

## KTY82/150,215
designator U?
Silicon Temperature Sensor, 1000 Ohm R25, 1696 Ohm R100, -55 to 150 degC, 3-Pin SOT23, RoHS, Tape & Reel; Manufacturer: NXP Semiconductors; PartNumber: KTY82/150,215; R100 (Ohm): 1696; R25 (Ohm): 1000; DatasheetVersion: Rev. 04; PackageVersion: 06-03-16, 03/2006; PackageReference: SOT23; PackageDescription: 3-Pin Plastic Surface Mounted Package, Body 2.9 x 1.3 mm, Pitch 0.95 mm; Supplier 1: Digi-Key; Supplier Part Number 1: KTY82/150,215-ND; Supplier 2: Newark; Supplier Part Number 2: 70R5534; Supplier 3: Mouser; Supplier Part Number 3: 771-KTY82150215; Packing: Tape & Reel; Mounting Technology: Surface Mount; Code_JEDEC: TO-236AB; ComponentLink1Description: Manufacturer URL; ComponentLink1URL: http://www.nxp.com/; ComponentLink2Description: Datasheet; ComponentLink2URL: http://www.nxp.com/documents/data_sheet/KTY82_SER.pdf; ComponentLink3Description: Package Specification; ComponentLink3URL: http://www.nxp.com/documents/outline_drawing/sot023_po.pdf
footprint NXP-SOT23_N (SOT23, 3-Leads, Body 3x1.4mm, Pitch 0.95mm, IPC Medium Density)
footprint NXP-SOT23_L (SOT23, 3-Leads, Body 3x1.4mm, Pitch 0.95mm, IPC High Density)
footprint NXP-SOT23_M (SOT23, 3-Leads, Body 3x1.4mm, Pitch 0.95mm, IPC Low Density)
pins: 1 EC "electrical contact", 2 EC "electrical contact", 3 SUBSTRATE "substrate (must remain potential free)"

## KTY82/151,215
designator U?
Silicon Temperature Sensor, 975 Ohm R25, 1654 Ohm R100, -55 to 150 degC, 3-Pin SOT23, RoHS, Tape & Reel; Manufacturer: NXP Semiconductors; PartNumber: KTY82/151,215; R100 (Ohm): 1654; R25 (Ohm): 975; DatasheetVersion: Rev. 04; PackageVersion: 06-03-16, 03/2006; PackageReference: SOT23; PackageDescription: 3-Pin Plastic Surface Mounted Package, Body 2.9 x 1.3 mm, Pitch 0.95 mm; Supplier 1: Digi-Key; Supplier Part Number 1: KTY82/151,215-ND; Supplier 2: Mouser; Supplier Part Number 2: 771-KTY82151215; Packing: Tape & Reel; Mounting Technology: Surface Mount; Code_JEDEC: TO-236AB; ComponentLink1Description: Manufacturer URL; ComponentLink1URL: http://www.nxp.com/; ComponentLink2Description: Datasheet; ComponentLink2URL: http://www.nxp.com/documents/data_sheet/KTY82_SER.pdf; ComponentLink3Description: Package Specification; ComponentLink3URL: http://www.nxp.com/documents/outline_drawing/sot023_po.pdf
footprint NXP-SOT23_N (SOT23, 3-Leads, Body 3x1.4mm, Pitch 0.95mm, IPC Medium Density)
footprint NXP-SOT23_L (SOT23, 3-Leads, Body 3x1.4mm, Pitch 0.95mm, IPC High Density)
footprint NXP-SOT23_M (SOT23, 3-Leads, Body 3x1.4mm, Pitch 0.95mm, IPC Low Density)
pins: 1 EC "electrical contact", 2 EC "electrical contact", 3 SUBSTRATE "substrate (must remain potential free)"

## KTY82/210,215
designator U?
Silicon Temperature Sensor, 2000 Ohm R25, 3392 Ohm R100, -55 to 150 degC, 3-Pin SOT23, RoHS, Tape & Reel; Manufacturer: NXP Semiconductors; PartNumber: KTY82/210,215; R100 (Ohm): 3392; R25 (Ohm): 2000; DatasheetVersion: Rev. 04; PackageVersion: 06-03-16, 03/2006; PackageReference: SOT23; PackageDescription: 3-Pin Plastic Surface Mounted Package, Body 2.9 x 1.3 mm, Pitch 0.95 mm; Supplier 1: Digi-Key; Supplier Part Number 1: 568-11220-2-ND; Supplier 2: Digi-Key; Supplier Part Number 2: 568-11220-1-ND; Supplier 3: Digi-Key; Supplier Part Number 3: 568-11220-6-ND; Supplier 4: Newark; Supplier Part Number 4: 70R5536; Supplier 5: Mouser; Supplier Part Number 5: 771-KTY82210215; Packing: Tape & Reel; Mounting Technology: Surface Mount; Code_JEDEC: TO-236AB; ComponentLink1Description: Manufacturer URL; ComponentLink1URL: http://www.nxp.com/; ComponentLink2Description: Datasheet; ComponentLink2URL: http://www.nxp.com/documents/data_sheet/KTY82_SER.pdf; ComponentLink3Description: Package Specification; ComponentLink3URL: http://www.nxp.com/documents/outline_drawing/sot023_po.pdf
footprint NXP-SOT23_N (SOT23, 3-Leads, Body 3x1.4mm, Pitch 0.95mm, IPC Medium Density)
footprint NXP-SOT23_L (SOT23, 3-Leads, Body 3x1.4mm, Pitch 0.95mm, IPC High Density)
footprint NXP-SOT23_M (SOT23, 3-Leads, Body 3x1.4mm, Pitch 0.95mm, IPC Low Density)
pins: 1 EC "electrical contact", 2 EC "electrical contact", 3 SUBSTRATE "substrate (must remain potential free)"

## KTY82/210,235
designator U?
Silicon Temperature Sensor, 2000 Ohm R25, 3392 Ohm R100, -55 to 150 degC, 3-Pin SOT23, RoHS, Tape & Reel; Manufacturer: NXP Semiconductors; PartNumber: KTY82/210,235; R100 (Ohm): 3392; R25 (Ohm): 2000; DatasheetVersion: Rev. 04; PackageVersion: 06-03-16, 03/2006; PackageReference: SOT23; PackageDescription: 3-Pin Plastic Surface Mounted Package, Body 2.9 x 1.3 mm, Pitch 0.95 mm; Supplier 1: Digi-Key; Supplier Part Number 1: KTY82/210,235-ND; Supplier 2: Newark; Supplier Part Number 2: 70R5537; Supplier 3: Mouser; Supplier Part Number 3: N/A; Packing: Tape & Reel; Mounting Technology: Surface Mount; Code_JEDEC: TO-236AB; ComponentLink1Description: Manufacturer URL; ComponentLink1URL: http://www.nxp.com/; ComponentLink2Description: Datasheet; ComponentLink2URL: http://www.nxp.com/documents/data_sheet/KTY82_SER.pdf; ComponentLink3Description: Package Specification; ComponentLink3URL: http://www.nxp.com/documents/outline_drawing/sot023_po.pdf
footprint NXP-SOT23_N (SOT23, 3-Leads, Body 3x1.4mm, Pitch 0.95mm, IPC Medium Density)
footprint NXP-SOT23_L (SOT23, 3-Leads, Body 3x1.4mm, Pitch 0.95mm, IPC High Density)
footprint NXP-SOT23_M (SOT23, 3-Leads, Body 3x1.4mm, Pitch 0.95mm, IPC Low Density)
pins: 1 EC "electrical contact", 2 EC "electrical contact", 3 SUBSTRATE "substrate (must remain potential free)"

## KTY82/220,215
designator U?
Silicon Temperature Sensor, 2000 Ohm R25, 3392 Ohm R100, -55 to 150 degC, 3-Pin SOT23, RoHS, Tape & Reel; Manufacturer: NXP Semiconductors; PartNumber: KTY82/220,215; R100 (Ohm): 3392; R25 (Ohm): 2000; DatasheetVersion: Rev. 04; PackageVersion: 06-03-16, 03/2006; PackageReference: SOT23; PackageDescription: 3-Pin Plastic Surface Mounted Package, Body 2.9 x 1.3 mm, Pitch 0.95 mm; Supplier 1: Digi-Key; Supplier Part Number 1: KTY82/220,215-ND; Supplier 2: Newark; Supplier Part Number 2: 70R5538; Supplier 3: Mouser; Supplier Part Number 3: 771-KTY82220215; Packing: Tape & Reel; Mounting Technology: Surface Mount; Code_JEDEC: TO-236AB; ComponentLink1Description: Manufacturer URL; ComponentLink1URL: http://www.nxp.com/; ComponentLink2Description: Datasheet; ComponentLink2URL: http://www.nxp.com/documents/data_sheet/KTY82_SER.pdf; ComponentLink3Description: Package Specification; ComponentLink3URL: http://www.nxp.com/documents/outline_drawing/sot023_po.pdf
footprint NXP-SOT23_N (SOT23, 3-Leads, Body 3x1.4mm, Pitch 0.95mm, IPC Medium Density)
footprint NXP-SOT23_L (SOT23, 3-Leads, Body 3x1.4mm, Pitch 0.95mm, IPC High Density)
footprint NXP-SOT23_M (SOT23, 3-Leads, Body 3x1.4mm, Pitch 0.95mm, IPC Low Density)
pins: 1 EC "electrical contact", 2 EC "electrical contact", 3 SUBSTRATE "substrate (must remain potential free)"

## KTY82/221,215
designator U?
Silicon Temperature Sensor, 1980 Ohm R25, 3358 Ohm R100, -55 to 150 degC, 3-Pin SOT23, RoHS, Tape & Reel; Manufacturer: NXP Semiconductors; PartNumber: KTY82/221,215; R100 (Ohm): 3358; R25 (Ohm): 1980; DatasheetVersion: Rev. 04; PackageVersion: 06-03-16, 03/2006; PackageReference: SOT23; PackageDescription: 3-Pin Plastic Surface Mounted Package, Body 2.9 x 1.3 mm, Pitch 0.95 mm; Supplier 1: Digi-Key; Supplier Part Number 1: KTY82/221,215-ND; Supplier 2: Mouser; Supplier Part Number 2: N/A; Packing: Tape & Reel; Mounting Technology: Surface Mount; Code_JEDEC: TO-236AB; ComponentLink1Description: Manufacturer URL; ComponentLink1URL: http://www.nxp.com/; ComponentLink2Description: Datasheet; ComponentLink2URL: http://www.nxp.com/documents/data_sheet/KTY82_SER.pdf; ComponentLink3Description: Package Specification; ComponentLink3URL: http://www.nxp.com/documents/outline_drawing/sot023_po.pdf
footprint NXP-SOT23_N (SOT23, 3-Leads, Body 3x1.4mm, Pitch 0.95mm, IPC Medium Density)
footprint NXP-SOT23_L (SOT23, 3-Leads, Body 3x1.4mm, Pitch 0.95mm, IPC High Density)
footprint NXP-SOT23_M (SOT23, 3-Leads, Body 3x1.4mm, Pitch 0.95mm, IPC Low Density)
pins: 1 EC "electrical contact", 2 EC "electrical contact", 3 SUBSTRATE "substrate (must remain potential free)"

## KTY82/222,215
designator U?
Silicon Temperature Sensor, 2020 Ohm R25, 3426 Ohm R100, -55 to 150 degC, 3-Pin SOT23, RoHS, Tape & Reel; Manufacturer: NXP Semiconductors; PartNumber: KTY82/222,215; R100 (Ohm): 3426; R25 (Ohm): 2020; DatasheetVersion: Rev. 04; PackageVersion: 06-03-16, 03/2006; PackageReference: SOT23; PackageDescription: 3-Pin Plastic Surface Mounted Package, Body 2.9 x 1.3 mm, Pitch 0.95 mm; Supplier 1: Digi-Key; Supplier Part Number 1: KTY82/222,215-ND; Supplier 2: Mouser; Supplier Part Number 2: N/A; Packing: Tape & Reel; Mounting Technology: Surface Mount; Code_JEDEC: TO-236AB; ComponentLink1Description: Manufacturer URL; ComponentLink1URL: http://www.nxp.com/; ComponentLink2Description: Datasheet; ComponentLink2URL: http://www.nxp.com/documents/data_sheet/KTY82_SER.pdf; ComponentLink3Description: Package Specification; ComponentLink3URL: http://www.nxp.com/documents/outline_drawing/sot023_po.pdf
footprint NXP-SOT23_N (SOT23, 3-Leads, Body 3x1.4mm, Pitch 0.95mm, IPC Medium Density)
footprint NXP-SOT23_L (SOT23, 3-Leads, Body 3x1.4mm, Pitch 0.95mm, IPC High Density)
footprint NXP-SOT23_M (SOT23, 3-Leads, Body 3x1.4mm, Pitch 0.95mm, IPC Low Density)
pins: 1 EC "electrical contact", 2 EC "electrical contact", 3 SUBSTRATE "substrate (must remain potential free)"

## KTY82/250,215
designator U?
Silicon Temperature Sensor, 2000 Ohm R25, 3392 Ohm R100, -55 to 150 degC, 3-Pin SOT23, RoHS, Tape & Reel; Manufacturer: NXP Semiconductors; PartNumber: KTY82/250,215; R100 (Ohm): 3392; R25 (Ohm): 2000; DatasheetVersion: Rev. 04; PackageVersion: 06-03-16, 03/2006; PackageReference: SOT23; PackageDescription: 3-Pin Plastic Surface Mounted Package, Body 2.9 x 1.3 mm, Pitch 0.95 mm; Supplier 1: Digi-Key; Supplier Part Number 1: KTY82/250,215-ND; Supplier 2: Mouser; Supplier Part Number 2: 771-KTY82250215; Packing: Tape & Reel; Mounting Technology: Surface Mount; Code_JEDEC: TO-236AB; ComponentLink1Description: Manufacturer URL; ComponentLink1URL: http://www.nxp.com/; ComponentLink2Description: Datasheet; ComponentLink2URL: http://www.nxp.com/documents/data_sheet/KTY82_SER.pdf; ComponentLink3Description: Package Specification; ComponentLink3URL: http://www.nxp.com/documents/outline_drawing/sot023_po.pdf
footprint NXP-SOT23_N (SOT23, 3-Leads, Body 3x1.4mm, Pitch 0.95mm, IPC Medium Density)
footprint NXP-SOT23_L (SOT23, 3-Leads, Body 3x1.4mm, Pitch 0.95mm, IPC High Density)
footprint NXP-SOT23_M (SOT23, 3-Leads, Body 3x1.4mm, Pitch 0.95mm, IPC Low Density)
pins: 1 EC "electrical contact", 2 EC "electrical contact", 3 SUBSTRATE "substrate (must remain potential free)"

## KTY82/251,215
designator U?
Silicon Temperature Sensor, 1950 Ohm R25, 3307 Ohm R100, -55 to 150 degC, 3-Pin SOT23, RoHS, Tape & Reel; Manufacturer: NXP Semiconductors; PartNumber: KTY82/251,215; R100 (Ohm): 3307; R25 (Ohm): 1950; DatasheetVersion: Rev. 04; PackageVersion: 06-03-16, 03/2006; PackageReference: SOT23; PackageDescription: 3-Pin Plastic Surface Mounted Package, Body 2.9 x 1.3 mm, Pitch 0.95 mm; Supplier 1: Digi-Key; Supplier Part Number 1: KTY82/251,215-ND; Supplier 2: Mouser; Supplier Part Number 2: 771-KTY82251215; Packing: Tape & Reel; Mounting Technology: Surface Mount; Code_JEDEC: TO-236AB; ComponentLink1Description: Manufacturer URL; ComponentLink1URL: http://www.nxp.com/; ComponentLink2Description: Datasheet; ComponentLink2URL: http://www.nxp.com/documents/data_sheet/KTY82_SER.pdf; ComponentLink3Description: Package Specification; ComponentLink3URL: http://www.nxp.com/documents/outline_drawing/sot023_po.pdf
footprint NXP-SOT23_N (SOT23, 3-Leads, Body 3x1.4mm, Pitch 0.95mm, IPC Medium Density)
footprint NXP-SOT23_L (SOT23, 3-Leads, Body 3x1.4mm, Pitch 0.95mm, IPC High Density)
footprint NXP-SOT23_M (SOT23, 3-Leads, Body 3x1.4mm, Pitch 0.95mm, IPC Low Density)
pins: 1 EC "electrical contact", 2 EC "electrical contact", 3 SUBSTRATE "substrate (must remain potential free)"

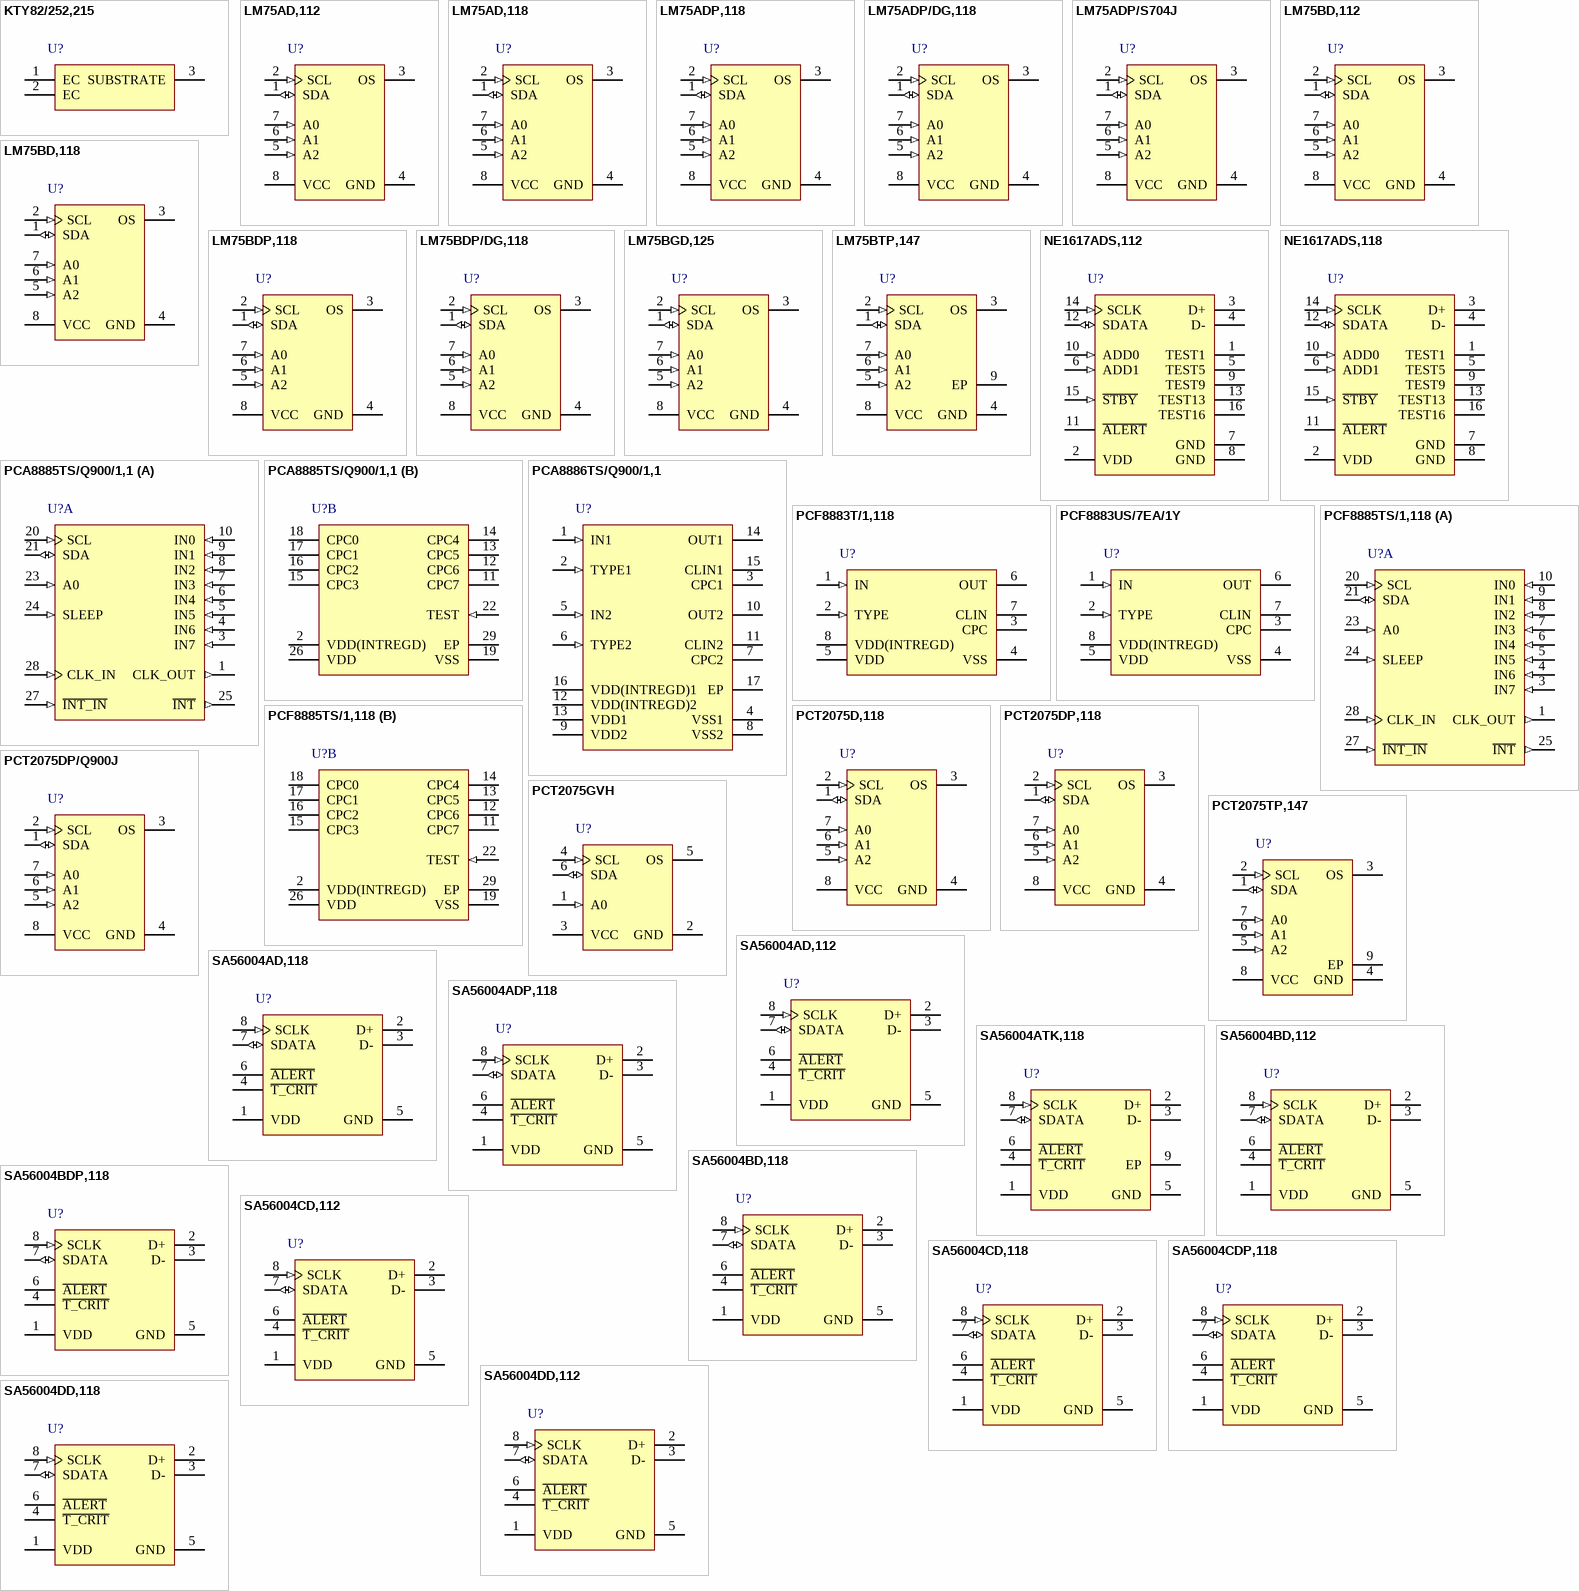
[diagram p1: symbols KTY82/252,215 to SA56004DD,118]